# Altium schematic symbol library Schlib1.SchLib: 2 symbols
Pins are listed as number, name and electrical type; pins without a type are passive.

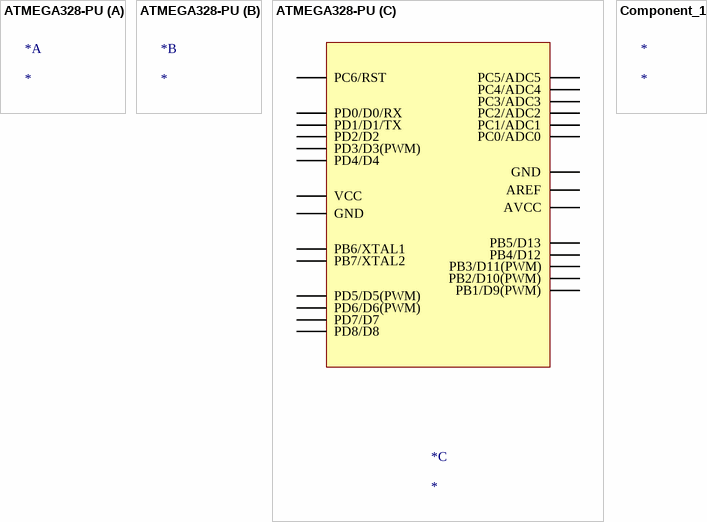
[diagram p0: symbols ATMEGA328-PU to Component_1]

## ATMEGA328-PU
designator *
MCU 8-bit ATmega AVR RISC 32KB Flash 2.5V/3.3V/5V 28-Pin PDIP - Rail/Tube; Manufacturer: Microchip; Manufacturer Part Number: ATMEGA328-PU; Supplier: Rs; Supplier Part Number: 1310277P; RoHS: Yes; Category: Microcontrollers; Stock: 1128; Pricing: 25=2.048, 100=1.972 (GBP); Lead Free: 5697LeadFree
footprint atmega v2 - duplicate
part C pins: 1 PC6/RST, 2 PD0/D0/RX, 3 PD1/D1/TX, 4 PD2/D2, 5 PD3/D3(PWM), 6 PD4/D4, 7 VCC, 8 GND, 9 PB6/XTAL1, 10 PB7/XTAL2, 11 PD5/D5(PWM), 12 PD6/D6(PWM), 13 PD7/D7, 14 PD8/D8, 15 PB1/D9(PWM), 16 PB2/D10(PWM), 17 PB3/D11(PWM), 18 PB4/D12, 19 PB5/D13, 20 AVCC, 21 AREF, 22 GND, 23 PC0/ADC0, 24 PC1/ADC1, 25 PC2/ADC2, 26 PC3/ADC3, 27 PC4/ADC4, 28 PC5/ADC5

## Component_1
designator *